# EAGLE library part PIC18F45J10-TQ44 (library xess)
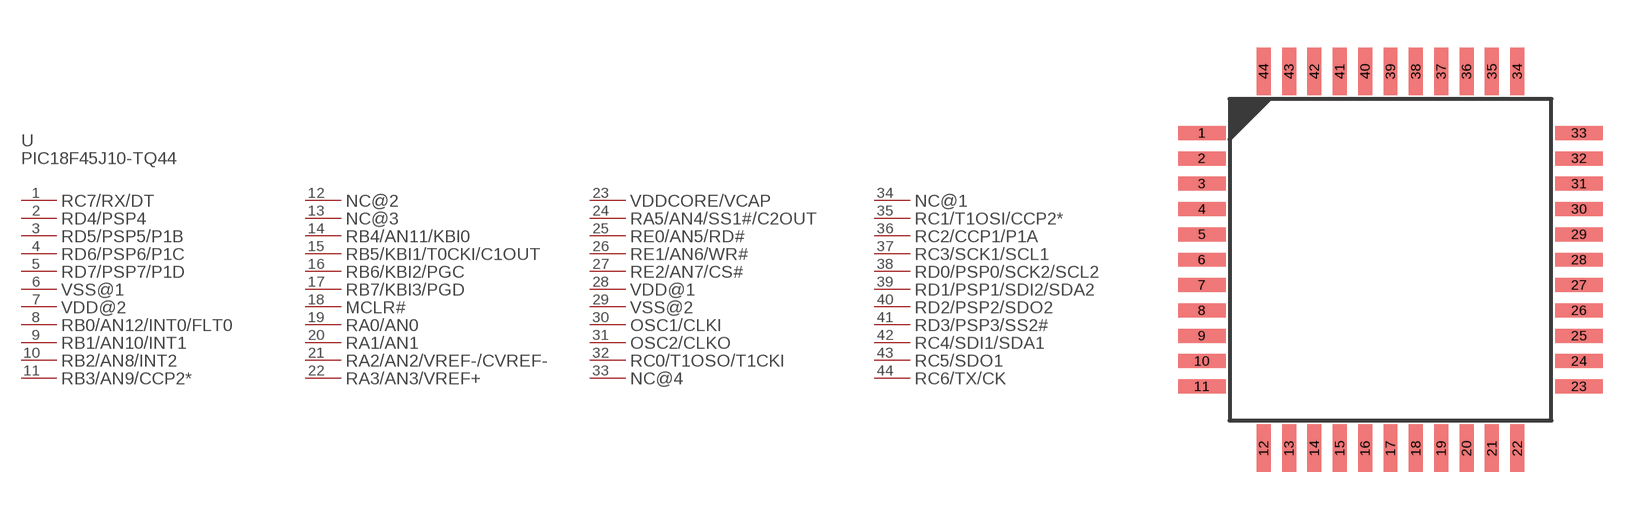
[diagram p108: symbol with the pads of PIC18F45J10-TQ44; footprint PIC18F45J10-TQ44]

Designator prefix U; gates PART_VALUE=PART_VALUE-PIC18F45J10-TQ44 RC7/RX/DT=PL-PIC18F45J10-TQ44 RD4/PSP4=PL-PIC18F45J10-TQ44 RD5/PSP5/P1B=PL-PIC18F45J10-TQ44 RD6/PSP6/P1C=PL-PIC18F45J10-TQ44 RD7/PSP7/P1D=PL-PIC18F45J10-TQ44 VSS@1=PL-PIC18F45J10-TQ44 VDD@2=PL-PIC18F45J10-TQ44 RB0/AN12/INT0/FLT0=PL-PIC18F45J10-TQ44 RB1/AN10/INT1=PL-PIC18F45J10-TQ44 RB2/AN8/INT2=PL-PIC18F45J10-TQ44 RB3/AN9/CCP2*=PL-PIC18F45J10-TQ44 NC@2=PL-PIC18F45J10-TQ44 NC@3=PL-PIC18F45J10-TQ44 RB4/AN11/KBI0=PL-PIC18F45J10-TQ44 RB5/KBI1/T0CKI/C1OUT=PL-PIC18F45J10-TQ44 RB6/KBI2/PGC=PL-PIC18F45J10-TQ44 RB7/KBI3/PGD=PL-PIC18F45J10-TQ44 MCLR#=PL-PIC18F45J10-TQ44 RA0/AN0=PL-PIC18F45J10-TQ44 RA1/AN1=PL-PIC18F45J10-TQ44 RA2/AN2/VREF-/CVREF-=PL-PIC18F45J10-TQ44 RA3/AN3/VREF+=PL-PIC18F45J10-TQ44 VDDCORE/VCAP=PL-PIC18F45J10-TQ44 RA5/AN4/SS1#/C2OUT=PL-PIC18F45J10-TQ44 RE0/AN5/RD#=PL-PIC18F45J10-TQ44 RE1/AN6/WR#=PL-PIC18F45J10-TQ44 RE2/AN7/CS#=PL-PIC18F45J10-TQ44 VDD@1=PL-PIC18F45J10-TQ44 VSS@2=PL-PIC18F45J10-TQ44 OSC1/CLKI=PL-PIC18F45J10-TQ44 OSC2/CLKO=PL-PIC18F45J10-TQ44 RC0/T1OSO/T1CKI=PL-PIC18F45J10-TQ44 NC@4=PL-PIC18F45J10-TQ44 NC@1=PL-PIC18F45J10-TQ44 RC1/T1OSI/CCP2*=PL-PIC18F45J10-TQ44 RC2/CCP1/P1A=PL-PIC18F45J10-TQ44 RC3/SCK1/SCL1=PL-PIC18F45J10-TQ44 RD0/PSP0/SCK2/SCL2=PL-PIC18F45J10-TQ44 RD1/PSP1/SDI2/SDA2=PL-PIC18F45J10-TQ44 RD2/PSP2/SDO2=PL-PIC18F45J10-TQ44 RD3/PSP3/SS2#=PL-PIC18F45J10-TQ44 RC4/SDI1/SDA1=PL-PIC18F45J10-TQ44 RC5/SDO1=PL-PIC18F45J10-TQ44 RC6/TX/CK=PL-PIC18F45J10-TQ44

## PIC18F45J10-TQ44  [PIC18F45J10-TQ44]
1  RC7/RX/DT:P$1
2  RD4/PSP4:P$1
3  RD5/PSP5/P1B:P$1
4  RD6/PSP6/P1C:P$1
5  RD7/PSP7/P1D:P$1
6  VSS@1:P$1
7  VDD@2:P$1
8  RB0/AN12/INT0/FLT0:P$1
9  RB1/AN10/INT1:P$1
10  RB2/AN8/INT2:P$1
11  RB3/AN9/CCP2*:P$1
12  NC@2:P$1
13  NC@3:P$1
14  RB4/AN11/KBI0:P$1
15  RB5/KBI1/T0CKI/C1OUT:P$1
16  RB6/KBI2/PGC:P$1
17  RB7/KBI3/PGD:P$1
18  MCLR#:P$1
19  RA0/AN0:P$1
20  RA1/AN1:P$1
21  RA2/AN2/VREF-/CVREF-:P$1
22  RA3/AN3/VREF+:P$1
23  VDDCORE/VCAP:P$1
24  RA5/AN4/SS1#/C2OUT:P$1
25  RE0/AN5/RD#:P$1
26  RE1/AN6/WR#:P$1
27  RE2/AN7/CS#:P$1
28  VDD@1:P$1
29  VSS@2:P$1
30  OSC1/CLKI:P$1
31  OSC2/CLKO:P$1
32  RC0/T1OSO/T1CKI:P$1
33  NC@4:P$1
34  NC@1:P$1
35  RC1/T1OSI/CCP2*:P$1
36  RC2/CCP1/P1A:P$1
37  RC3/SCK1/SCL1:P$1
38  RD0/PSP0/SCK2/SCL2:P$1
39  RD1/PSP1/SDI2/SDA2:P$1
40  RD2/PSP2/SDO2:P$1
41  RD3/PSP3/SS2#:P$1
42  RC4/SDI1/SDA1:P$1
43  RC5/SDO1:P$1
44  RC6/TX/CK:P$1

## Footprint PIC18F45J10-TQ44 (pad centres in mm)
smd 1.5 x 0.44: 1 -0.25,0; 2 -0.25,-0.8; 3 -0.25,-1.6; 4 -0.25,-2.4; 5 -0.25,-3.2; 6 -0.25,-4; 7 -0.25,-4.8; 8 -0.25,-5.6; 9 -0.25,-6.4; 10 -0.25,-7.2; 11 -0.25,-8; 23 11.65,-8; 24 11.65,-7.2; 25 11.65,-6.4; 26 11.65,-5.6; 27 11.65,-4.8; 28 11.65,-4; 29 11.65,-3.2; 30 11.65,-2.4; 31 11.65,-1.6; 32 11.65,-0.8; 33 11.65,0
smd 0.44 x 1.5: 12 1.7,-9.95; 13 2.5,-9.95; 14 3.3,-9.95; 15 4.1,-9.95; 16 4.9,-9.95; 17 5.7,-9.95; 18 6.5,-9.95; 19 7.3,-9.95; 20 8.1,-9.95; 21 8.9,-9.95; 22 9.7,-9.95; 34 9.7,1.95; 35 8.9,1.95; 36 8.1,1.95; 37 7.3,1.95; 38 6.5,1.95; 39 5.7,1.95; 40 4.9,1.95; 41 4.1,1.95; 42 3.3,1.95; 43 2.5,1.95; 44 1.7,1.95